# EAGLE library part AD-ADXL356 (library FaBo-Mems)
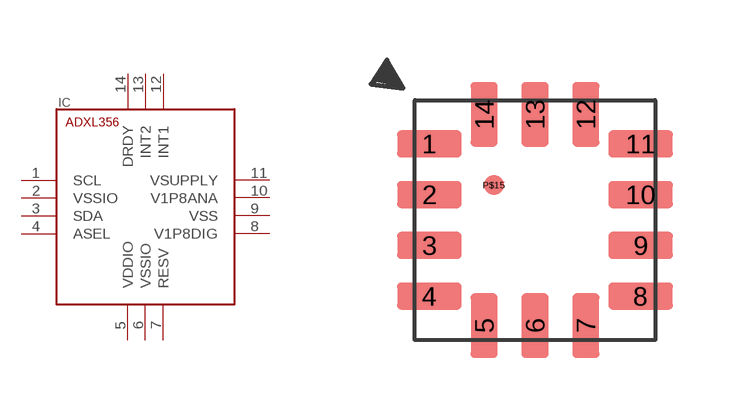
[diagram p36: symbol with the pads of ANALOGDEVICES-ADXL356; footprint ANALOGDEVICES-ADXL356]

Designator prefix IC

## AD-ADXL356  [ANALOGDEVICES-ADXL356]
1  SCL
2  VSSIO
3  SDA
4  ASEL
5  VDDIO
6  VSSIO
7  RESV
8  V1P8DIG
9  VSS
10  V1P8ANA
11  VSUPPLY
12  INT1
13  INT2
14  DRDY

## Footprint ANALOGDEVICES-ADXL356 (pad centres in mm)
smd 1.614 x 0.68: 1 -2.64,1.905; 2 -2.64,0.635; 3 -2.64,-0.635; 4 -2.64,-1.905; 8 2.64,-1.905; 9 2.64,-0.635; 10 2.64,0.635; 11 2.64,1.905
smd 0.68 x 1.614: 5 -1.27,-2.64; 6 0,-2.64; 7 1.27,-2.64; 12 1.27,2.64; 13 0,2.64; 14 -1.27,2.64
smd 0.5 x 0.5: P$15 -1.03,0.87